# EAGLE library part INA332 (library AR_op_amps)
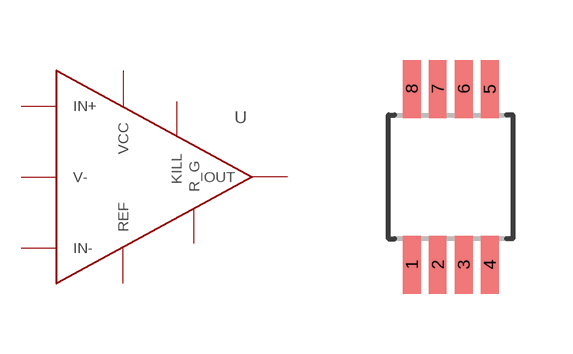
[diagram p0: symbol with the pads of 8-TSSOP; footprint 8-TSSOP]

Designator prefix -

## INA332  [8-TSSOP]
1  R_G
2  IN-
3  IN+
4  V-
5  REF
6  OUT
7  VCC
8  KILL

## Footprint 8-TSSOP (pad centres in mm)
smd 0.45 x 1.45: 1 -0.975,-2.2; 2 -0.325,-2.2; 3 0.325,-2.2; 4 0.975,-2.2; 5 0.975,2.2; 6 0.325,2.2; 7 -0.325,2.2; 8 -0.975,2.2